# EAGLE library part SP_BLUETOOTH_SMIRF (library SF_Bluetooth_SMiRF)
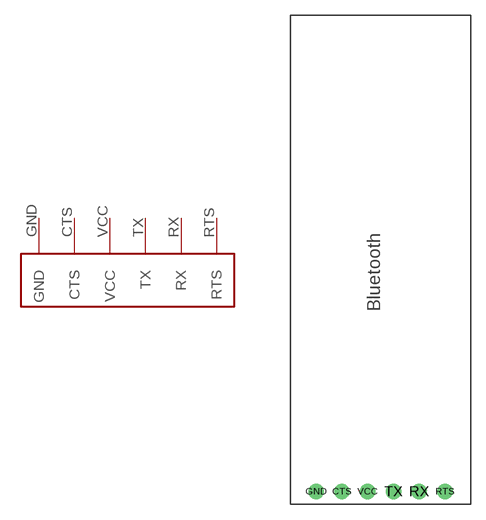
[diagram p0: symbol with the pads of SF_BLUETOOTH_SMIRF; footprint SF_BLUETOOTH_SMIRF]

Designator prefix -

## SP_BLUETOOTH_SMIRF  [SF_BLUETOOTH_SMIRF]
CTS  CTS
GND  GND
RTS  RTS
RX  RX
TX  TX
VCC  VCC

## Footprint SF_BLUETOOTH_SMIRF (pad centres in mm)
drill 1.016: CTS 5.08,1.27; GND 2.54,1.27; RTS 15.24,1.27; RX 12.7,1.27; TX 10.16,1.27; VCC 7.62,1.27